# EAGLE library part TCS3414 (library wavemeter)
TCS3414 color sensor from TAOS / AMS (FN package)
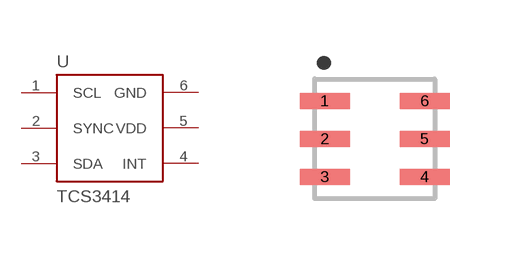
[diagram p0: symbol with the pads of TCS3414; footprint TCS3414]

Designator prefix U

## TCS3414FN  [TCS3414]
1  SCL
2  SYNC
3  SDA
4  INT
5  VDD
6  GND

## Footprint TCS3414 (pad centres in mm)
smd 1.25 x 0.4: 1 -1.25,0.95; 2 -1.25,0; 3 -1.25,-0.95; 4 1.25,-0.95; 5 1.25,0; 6 1.25,0.95